# EAGLE library part SN74CBT3244 (library toyotune)
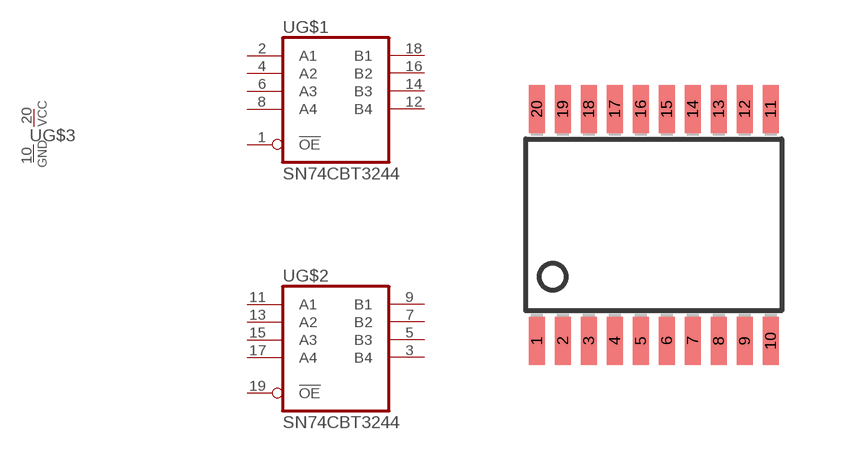
[diagram p18: symbol with the pads of PW_R-PDSO-G20; footprint PW_R-PDSO-G20]

Designator prefix -; gates G$1=SN74CBT3244 G$2=SN74CBT3244 G$3=PWR

## SN74CBT3244PWR  [PW_R-PDSO-G20]
1  G$1:!OE  in
2  G$1:A1
3  G$2:B4
4  G$1:A2
5  G$2:B3
6  G$1:A3
7  G$2:B2
8  G$1:A4
9  G$2:B1
10  G$3:GND  pwr
11  G$2:A1
12  G$1:B4
13  G$2:A2
14  G$1:B3
15  G$2:A3
16  G$1:B2
17  G$2:A4
18  G$1:B1
19  G$2:!OE  in
20  G$3:VCC  pwr

## Footprint PW_R-PDSO-G20 (pad centres in mm)
PLASTIC SMALL-OUTLINE PACKAGE SO 20 JEDEC MO-153, PW Type Source: www.ti.com/.. slvs087l.pdf
smd 0.4 x 1.2: 1 -2.925,-2.9; 2 -2.275,-2.9; 3 -1.625,-2.9; 4 -0.975,-2.9; 5 -0.325,-2.9; 6 0.325,-2.9; 7 0.975,-2.9; 8 1.625,-2.9; 9 2.275,-2.9; 10 2.925,-2.9; 11 2.925,2.9; 12 2.275,2.9; 13 1.625,2.9; 14 0.975,2.9; 15 0.325,2.9; 16 -0.325,2.9; 17 -0.975,2.9; 18 -1.625,2.9; 19 -2.275,2.9; 20 -2.925,2.9